# EAGLE library part SAMTEC-TFM-115-02-L-D-DS (library greg-Connector)
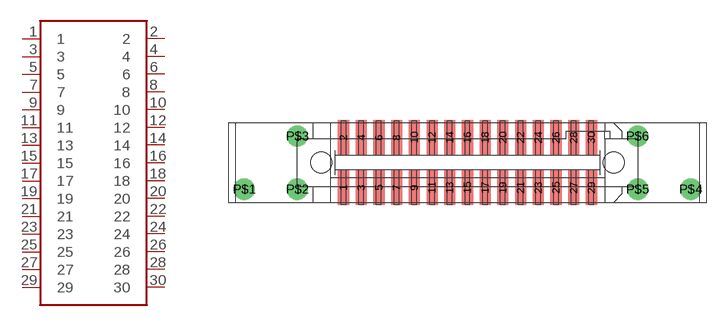
[diagram p6: symbol with the pads of SAMTEC-TFM-115-02-L-D-DS; footprint SAMTEC-TFM-115-02-L-D-DS]

Designator prefix J

## SAMTEC-TFM-115-02-L-D-DS  [SAMTEC-TFM-115-02-L-D-DS]
1  1
2  2
3  3
4  4
5  5
6  6
7  7
8  8
9  9
10  10
11  11
12  12
13  13
14  14
15  15
16  16
17  17
18  18
19  19
20  20
21  21
22  22
23  23
24  24
25  25
26  26
27  27
28  28
29  29
30  30

## Footprint SAMTEC-TFM-115-02-L-D-DS (pad centres in mm)
smd 0.8 x 2.5: 1 -8.89,-1.8; 2 -8.89,1.8; 3 -7.62,-1.8; 4 -7.62,1.8; 5 -6.35,-1.8; 6 -6.35,1.8; 7 -5.08,-1.8; 8 -5.08,1.8; 9 -3.81,-1.8; 10 -3.81,1.8; 11 -2.54,-1.8; 12 -2.54,1.8; 13 -1.27,-1.8; 14 -1.27,1.8; 15 0,-1.8; 16 0,1.8; 17 1.27,-1.8; 18 1.27,1.8; 19 2.54,-1.8; 20 2.54,1.8; 21 3.81,-1.8; 22 3.81,1.8; 23 5.08,-1.8; 24 5.08,1.8; 25 6.35,-1.8; 26 6.35,1.8; 27 7.62,-1.8; 28 7.62,1.8; 29 8.89,-1.8; 30 8.89,1.8
drill 1: P$1 -16.002,-1.905; P$2 -12.192,-1.905; P$3 -12.192,1.905; P$4 16.002,-1.905; P$5 12.192,-1.905; P$6 12.192,1.905
hole 1.5 at 10.477,0
hole 1.5 at -10.477,0